# Altium schematic symbol library Schlib1.SchLib: 2 symbols
Pins are listed as number, name and electrical type; pins without a type are passive.

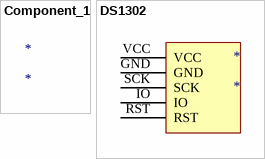
[diagram p0: symbols Component_1 to DS1302]

## Component_1
designator *

## DS1302
designator *
pins: GND, IO, RST, SCK, VCC